# EAGLE library part RELAY-HFE7 (library template)
单线圈磁保持一组常开，一组常闭超小型中功率继电器
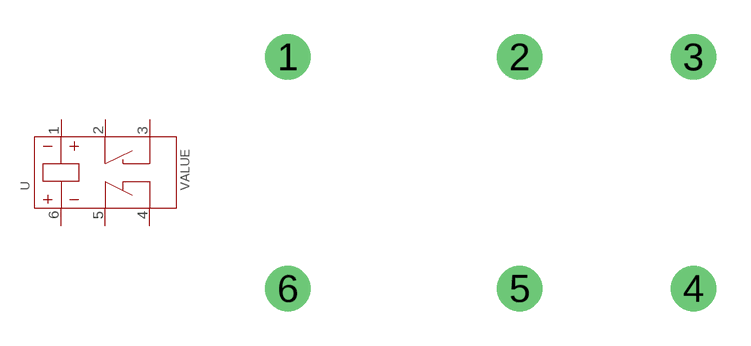
[diagram p16: symbol with the pads of 6P-20.0X15.0X10.2H; footprint 6P-20.0X15.0X10.2H]

Designator prefix U

## RELAY-HFE7  [6P-20.0X15.0X10.2H]
1  P$1
2  P$2
3  P$3
4  P$4
5  P$5
6  P$6

## Footprint 6P-20.0X15.0X10.2H (pad centres in mm)
drill 1.2 pad 2: 1 -8.89,5.08; 2 1.27,5.08; 3 8.89,5.08; 4 8.89,-5.08; 5 1.27,-5.08; 6 -8.89,-5.08